# Altium footprint library mag-encoder-v2.PcbLib: 14 footprints
Each footprint in its own frame and in the unit in brackets; x right, y up, seen from the top. Pads: shape width x height; smd on the part's side, far side on the other; paste and mask are expansions set on the pad; w line width, h text height; cw(c..) or ccw(c..) is an arc to the next point about the centre after c.
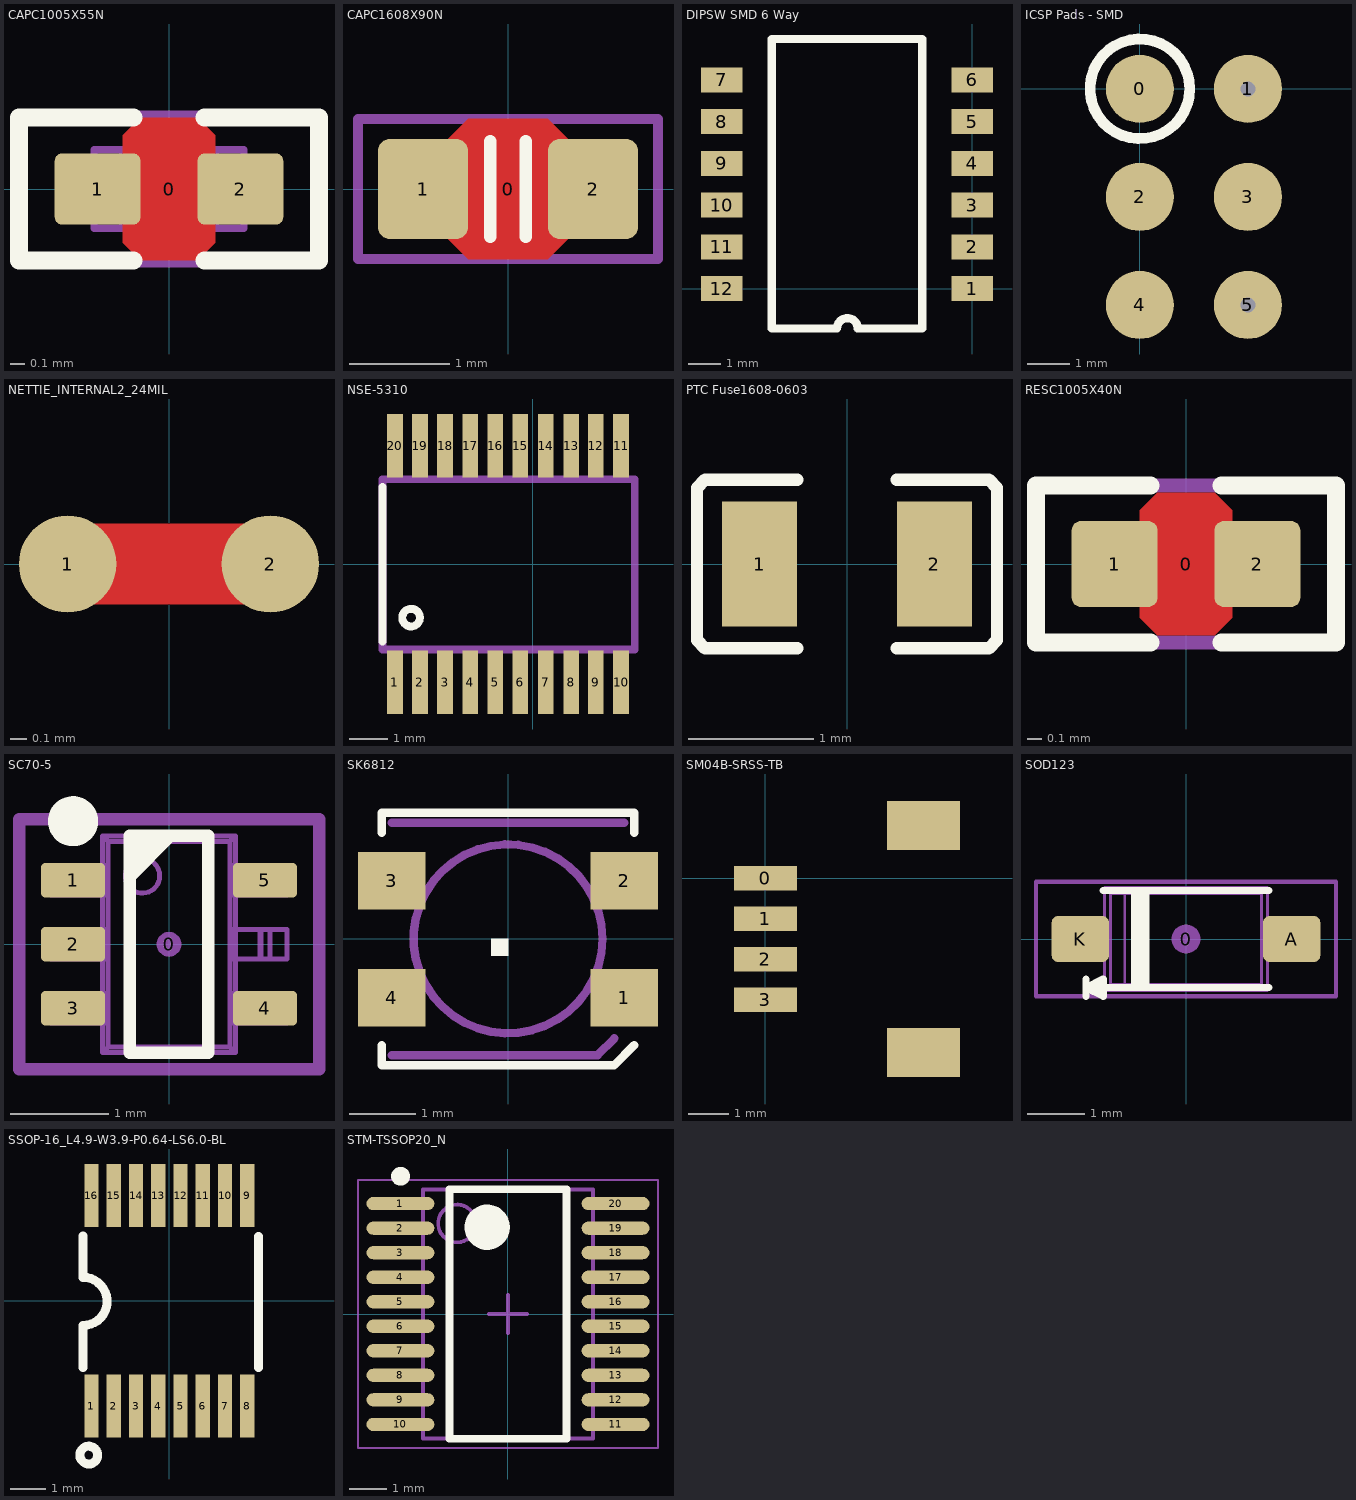
[diagram p0: the footprints below, top view; thin cyan lines are the x and y axes]

## CAPC1005X55N [mm] "Chip Capacitor, Body 1.0x0.5mm, EIA 0402, IPC Medium Density"
height 0.55
pads (3):
  round 0.2 on Mech15: 0(0,0)
  rrect20% 0.6x0.5 smd: 1(-0.5,0) 2(0.5,0)
Top Layer:
  pour cut-out: -0.325,0.375 -0.2,0.5 0.2,0.5 0.325,0.375 0.325,-0.375 0.2,-0.5 -0.2,-0.5 -0.325,-0.375
Top Overlay:
  lines w0.127: -0.25,-0.5 -1.05,-0.5 -1.05,0.5 -0.25,0.5 ; 0.25,-0.5 1.05,-0.5 1.05,0.5 0.25,0.5
Mechanical 13:
  lines w0.05: -0.325,-0.255 0.325,-0.255 ; -0.325,0.255 0.325,0.255 ; -0.525,-0.275 -0.525,0.275 -0.325,0.275 -0.325,-0.275 -0.525,-0.275 ; 0.325,-0.275 0.525,-0.275 0.525,0.275 0.325,0.275 0.325,-0.275
Mechanical 15:
  lines w0.1: -1.05,-0.5 -1.05,0.5 1.05,0.5 1.05,-0.5 -1.05,-0.5
3D body "CAP 0402 (1005 metric).STEP": height 0.55, standoff 0, extent -0.525,-0.275 0.525,0.275

## CAPC1608X90N [mm] "Chip Capacitor, Body 1.6x0.8mm, EIA 0603, IPC Medium Density"
height 0.9
pads (3):
  round 0.254 on Mech15: 0(0,0)
  rrect25% 0.9x1 smd: 1(-0.85,0) 2(0.85,0)
Top Layer:
  pour cut-out: -0.6,0.5 -0.4,0.7 0.4,0.7 0.6,0.5 0.6,-0.5 0.4,-0.7 -0.4,-0.7 -0.6,-0.5
Top Overlay:
  lines w0.127: -0.178,-0.476 -0.178,0.476 ; 0.178,-0.476 0.178,0.476
Mechanical 13:
  lines w0.05: -0.55,-0.43 0.55,-0.43 ; -0.55,0.43 0.55,0.43 ; -0.85,-0.45 -0.55,-0.45 -0.55,0.45 -0.85,0.45 -0.85,-0.45 ; 0.55,-0.45 0.85,-0.45 0.85,0.45 0.55,0.45 0.55,-0.45
Mechanical 15:
  lines w0.1: -1.5,-0.7 1.5,-0.7 1.5,0.7 -1.5,0.7 -1.5,-0.7
3D body "CAP_0603.STEP": height 0.89, standoff -0.01, extent -0.85,-0.45 0.85,0.45

## DIPSW SMD 6 Way [mil]
height 25.59
pads (12):
  rect 50x30 smd: 1(0,0) 2(0,50) 3(0,100) 4(0,150) 5(0,200) 6(0,250) 7(-300,250) 8(-300,200) 9(-300,150) 10(-300,100) 11(-300,50) 12(-300,0)
Top Overlay:
  lines w10: -240,-48 -162.5,-48 ; -240,-47 -240,299.02 -60,299 -60,-47.01 ; -162,-48 cw(c-149.5,-48) -137,-48 ; -137.5,-48 -60,-48
3D body "User Library-1571983-8_DIP_Switch_Tyco_Electronics.step": height 92.52, standoff 0, extent -309.7,-47.04 10.49,297.44

## ICSP Pads - SMD [mm]
pads (6):
  round 1.6 smd: 0(0,0) 2(0,-2.54) 3(2.54,-2.54) 4(0,-5.08)
  round 1.6 / inner round 1.6 / far side round 0.7 hole 0.35: 1(2.54,0) 5(2.54,-5.08)
Top Overlay:
  circle w0.254: c0,0 r1.171

## NETTIE_INTERNAL2_24MIL [mil]
pads (2):
  round 24 smd: 1(-25,0) 2(25,0)
Top Layer:
  rectangle: 0,-9.97 25,10.03
  rectangle: -25,-9.97 0,10.03

## NSE-5310 [mil]
pads (20):
  rect 16x65 smd: 1(-140.75,-120.08) 2(-115.16,-120.08) 3(-89.57,-120.08) 4(-63.98,-120.08) 5(-38.39,-120.08) 6(-12.8,-120.08) 7(13,-120.08) 8(39,-120.08) 9(64,-120.08) 10(90,-120.08) 11(90,121) 12(64,121) 13(39,121) 14(13,121) 15(-12.8,121) 16(-38.39,121) 17(-63.98,121) 18(-89.57,121) 19(-115.16,121) 20(-140.75,121)
Top Overlay:
  circle w8: c-124.25,-54.25 r9
  lines w8: -153.54,-78.74 -153.54,79
Mechanical 16:
  rectangle: -145.67,87 -135.83,126
  rectangle: -120.08,87 -110.24,126
  rectangle: -94.49,87 -84.65,126
  rectangle: -68.9,87 -59.06,126
  rectangle: -43.31,87 -33.46,126
  rectangle: -17.72,87 -7.87,126
  rectangle: 85,87 95,126
  rectangle: 60,87 69,126
  rectangle: 34,87 44,126
  rectangle: 8,87 18,126
  rectangle: -145.67,-125.98 -135.83,-86.61
  rectangle: -120.08,-125.98 -110.24,-86.61
  rectangle: -94.49,-125.98 -84.65,-86.61
  rectangle: -68.9,-125.98 -59.06,-86.61
  rectangle: -43.31,-125.98 -33.46,-86.61
  rectangle: -17.72,-125.98 -7.87,-86.61
  rectangle: 85,-125.98 95,-86.61
  rectangle: 60,-125.98 69,-86.61
  rectangle: 34,-125.98 44,-86.61
  rectangle: 8,-125.98 18,-86.61
  lines w8: -153.54,-86.61 -153.54,87 104,87 104,-86.61 -153.54,-86.61
3D body "MO-153AC.stp": height 47.24, standoff 0, extent -155.51,-129.92 104.33,129.92

## PTC Fuse1608-0603 [mm]
height 0.9
pads (2):
  rect 0.6x1 smd: 1(-0.7,0) 2(0.7,0)
Top Overlay:
  lines w0.1: -0.4,-0.675 -1.135,-0.675 -1.2,-0.61 -1.2,0.61 -1.135,0.675 -0.4,0.675 ; 0.4,-0.675 1.135,-0.675 1.2,-0.61 1.2,0.61 1.135,0.675 0.4,0.675
3D body "68912.stp": height 0.48, standoff 0, extent -0.825,-0.425 0.825,0.425

## RESC1005X40N [mm] "Chip Resistor, Body 1.0x0.5mm, EIA 0402, IPC Medium Density"
height 0.4
pads (3):
  round 0.2 on Mech15: 0(0,0)
  rrect20% 0.6x0.6 smd: 1(-0.5,0) 2(0.5,0)
Top Layer:
  pour cut-out: -0.325,0.375 -0.2,0.5 0.2,0.5 0.325,0.375 0.325,-0.375 0.2,-0.5 -0.2,-0.5 -0.325,-0.375
Top Overlay:
  lines w0.127: -0.25,-0.55 -1.05,-0.55 -1.05,0.55 -0.25,0.55 ; 0.25,-0.55 1.05,-0.55 1.05,0.55 0.25,0.55
Mechanical 13:
  lines w0.05: 0.225,-0.274 -0.225,-0.274 0.225,-0.274 ; -0.525,-0.275 -0.225,-0.275 -0.225,0.275 -0.525,0.275 -0.525,-0.275 ; -0.225,0.274 0.225,0.274 -0.225,0.274 ; 0.225,-0.275 0.225,0.275 0.525,0.275 0.525,-0.275 0.225,-0.275
Mechanical 15:
  lines w0.1: -1.05,-0.55 1.05,-0.55 1.05,0.55 -1.05,0.55 -1.05,-0.55
3D body "RES 0402 (1005 metric).STEP": height 0.4, standoff 0, extent -0.525,-0.275 0.525,0.275

## SC70-5 [mm] "SC70-5; SOT-353"
height 1.6
pads (6):
  round 0.254 on Mech15: 0(0,0)
  rrect25% 0.65x0.35 smd: 1(-0.975,0.65) 2(-0.975,0) 3(-0.975,-0.65) 4(0.975,-0.65) 5(0.975,0.65)
Top Overlay:
  circle w0.254: c-0.975,1.25 r0.127
  region: 0.1,1.1 -0.4,0.6 -0.4,1.1
  lines w0.127: -0.4,-1.1 0.4,-1.1 0.4,1.1 -0.4,1.1 -0.4,-1.1
Mechanical 13:
  circle w0.05: c-0.27,0.695 r0.175
  lines w0.05: -1.028,-0.8 -1.028,-0.5 ; -1.028,-0.15 -1.028,0.15 ; -1.028,0.5 -1.028,0.8 ; -0.937,-0.8 -0.937,-0.5 ; -0.937,-0.15 -0.937,0.15 ; -0.937,0.5 -0.937,0.8 ; -0.925,-0.8 -0.925,-0.5 ; -0.925,-0.15 -0.925,0.15 ; -0.925,0.5 -0.925,0.8 ; 0.925,-0.8 0.925,-0.5 ; 0.925,-0.15 0.925,0.15 ; 0.925,0.5 0.925,0.8 ; 0.937,-0.8 0.937,-0.5 ; 0.937,-0.15 0.937,0.15 ; 0.937,0.5 0.937,0.8 ; 1.028,-0.8 1.028,-0.5 ; 1.028,-0.15 1.028,0.15 ; 1.028,0.5 1.028,0.8 ; -0.675,-1.1 -0.619,-1.044 ; -0.675,-1.1 -0.675,1.1 ; -0.675,-1.1 0.675,-1.1 ; -0.675,1.1 -0.619,1.044 ; -0.675,1.1 0.675,1.1 ; -0.619,-1.044 -0.619,1.044 ; -0.619,-1.044 0.619,-1.044 ; -0.619,1.044 0.619,1.044 ; 0.619,-1.044 0.619,1.044 ; 0.619,-1.044 0.675,-1.1 ; 0.619,1.044 0.675,1.1 ; 0.675,-1.1 0.675,1.1 ; -1.2,-0.8 -0.654,-0.8 -0.654,-0.5 -1.2,-0.5 -1.2,-0.8 ; -1.2,-0.15 -0.654,-0.15 -0.654,0.15 -1.2,0.15 -1.2,-0.15 ; -1.2,0.5 -0.654,0.5 -0.654,0.8 -1.2,0.8 -1.2,0.5 ; 0.654,-0.8 0.654,-0.5 1.2,-0.5 1.2,-0.8 0.654,-0.8 ; 0.654,-0.15 0.654,0.15 1.2,0.15 1.2,-0.15 0.654,-0.15 ; 0.654,0.5 0.654,0.8 1.2,0.8 1.2,0.5 0.654,0.5
Mechanical 15:
  lines w0.127: -1.524,-1.27 1.524,-1.27 1.524,1.27 -1.524,1.27 -1.524,-1.27
3D body "SOT363.STEP": height 1.1, standoff 0, extent -1.2,-1.1 1.2,1.1

## SK6812 [mil]
pads (4):
  rect 40x34 smd: 1(68.9,-35) 2(68.9,34.45) 3(-69,34.45) 4(-69,-35)
Top Overlay:
  region: 0,0 -10,0 -10,-10 0,-10
  lines w5: -75,-63 -75,-75 62.8,-75 74.8,-63 ; -75,62.99 -75,74.8 74.8,74.8 74.8,62.99
Mechanical 16:
  circle w5: c0,0 r56
  lines w5: -69,-69 53.05,-69 62.99,-59.06 ; -69,68.9 68.9,68.9
3D body "philips-lumileds-DRM989.STEP": height 47.24, standoff 0, extent -72.16,-70.52 73.52,67.27

## SM04B-SRSS-TB [mm]
pads (6):
  rect 1.55x0.6 smd: 0(0,0) 1(0,-1) 2(0,-2) 3(0,-3)
  rect 1.8x1.2 smd: ""(3.9,-4.3) ""(3.9,1.3)
3D body "SM04B-SRSS-TB.STEP": height 2.96, standoff 0, extent -0.555,-4.5 4.395,1.5

## SOD123 [mm] "SOD-123; 2 Leads; Body 2.7 x 1.6 mm, (LxW)"
height 1.35
pads (3):
  round 0.508 on Mech15: 0(0,0)
  rrect25% 1x0.8 smd: A(1.85,0) K(-1.85,0)
Top Overlay:
  lines w0.127: -1.75,-1 -1.75,-0.7 ; -1.45,0.85 1.45,0.85 ; -0.9,-0.85 -0.9,0.85 ; -0.8,-0.85 -0.8,0.85 ; -0.7,-0.85 -0.7,0.85 ; 1.448,-0.85 -1.45,-0.85 -1.75,-0.85 ; -1.75,-0.85 -1.45,-1 -1.45,-0.7 -1.75,-0.85
Mechanical 13:
  lines w0.05: -1.766,-0.308 -1.766,0.308 ; -1.707,-0.308 -1.707,0.308 ; -1.517,-0.308 -1.517,0.308 ; -1.425,-0.308 -1.95,-0.308 -1.95,0.308 -1.425,0.308 ; 1.425,-0.308 1.95,-0.308 1.95,0.308 1.425,0.308 ; 1.517,-0.308 1.517,0.308 ; 1.707,-0.308 1.707,0.308 ; 1.766,-0.308 1.766,0.308 ; -1.425,-0.9 1.425,-0.9 ; -1.425,-0.9 -1.323,-0.798 ; -1.425,-0.9 -1.425,0.9 ; -1.425,0.9 -1.323,0.798 ; -1.425,0.9 1.425,0.9 ; -1.323,-0.798 -1.072,-0.798 ; -1.323,-0.798 -1.323,0.798 ; -1.323,0.798 -1.072,0.798 ; -1.072,-0.798 1.322,-0.797 ; -1.072,-0.798 -1.072,0.798 ; -1.072,0.798 1.322,0.797 ; 1.322,-0.797 1.322,0.797 ; 1.322,-0.797 1.425,-0.9 ; 1.322,0.797 1.425,0.9 ; 1.425,-0.9 1.425,0.9
Mechanical 15:
  lines w0.076: -2.625,-1 2.625,-1 2.625,1 -2.625,1 -2.625,-1
3D body "SOD123.STEP": height 1.18, standoff 0, extent -1.95,-0.9 1.95,0.9

## SSOP-16_L4.9-W3.9-P0.64-LS6.0-BL [mil]
pads (16):
  rect 16x71 smd: 1(-87.5,-118.11) 2(-62.5,-118.11) 3(-37.5,-118.11) 4(-12.5,-118.11) 5(12.5,-118.11) 6(37.5,-118.11) 7(62.5,-118.11) 8(87.5,-118.11) 9(87.5,118.11) 10(62.5,118.11) 11(37.5,118.11) 12(12.5,118.11) 13(-12.5,118.11) 14(-37.5,118.11) 15(-62.5,118.11) 16(-87.5,118.11)
Top Overlay:
  circle w10: c-90.55,-173.23 r10
  lines w10: -96.85,-74.67 -96.96,-27.66 ccw(c-96.96,-0.66) -96.96,26.34 -96.85,72.57 ; 100,-75 100,72.12

## STM-TSSOP20_N [mm] "SOP, 20-Leads, Body 6.6x4.5mm, Pitch 0.65mm, IPC Medium Density"
height 1.2
pads (20):
  oval 1.8x0.35 smd: 1(-2.85,2.925) 2(-2.85,2.275) 3(-2.85,1.625) 4(-2.85,0.975) 5(-2.85,0.325) 6(-2.85,-0.325) 7(-2.85,-0.975) 8(-2.85,-1.625) 9(-2.85,-2.275) 10(-2.85,-2.925) 11(2.85,-2.925) 12(2.85,-2.275) 13(2.85,-1.625) 14(2.85,-0.975) 15(2.85,-0.325) 16(2.85,0.325) 17(2.85,0.975) 18(2.85,1.625) 19(2.85,2.275) 20(2.85,2.925)
Top Overlay:
  circle w0.6: c-0.55,2.3 r0.3
  circle w0.25: c-2.85,3.65 r0.125
  lines w0.2: -1.55,-3.3 1.55,-3.3 1.55,3.3 -1.55,3.3 -1.55,-3.3
Mechanical 13:
  circle w0.1: c-1.35,2.4 r0.5
  lines w0.1: -2.25,-3.3 2.25,-3.3 2.25,3.3 -2.25,3.3 -2.25,-3.3
Mechanical 15:
  lines w0.05: -3.975,-3.55 3.975,-3.55 3.975,3.55 -3.975,3.55 -3.975,-3.55
  lines w0.1: -0.5,0 0.5,0 ; 0,-0.5 0,0.5
3D body: height 1.2, standoff 0.05, extent -2.25,-3.3 2.25,3.3